# Altium footprint library Bemine-mc60_PCB.PcbLib: 21 footprints (part 2 of 2)
Each footprint in its own frame and in the unit in brackets; x right, y up, seen from the top. Pads: shape width x height; smd on the part's side, far side on the other; paste and mask are expansions set on the pad; w line width, h text height; cw(c..) or ccw(c..) is an arc to the next point about the centre after c.
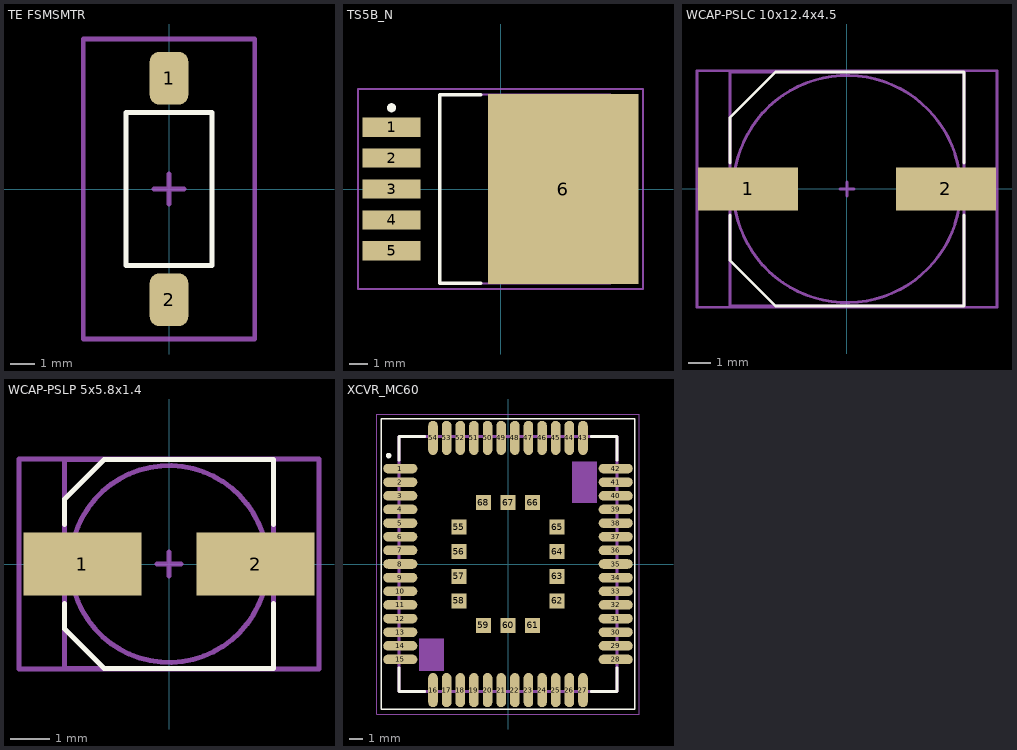
[diagram p1: the footprints below, top view; thin cyan lines are the x and y axes]

## TE FSMSMTR [mm]
pads (2):
  rrect50% 1.6x2.19 smd: 1(0,4.595) 2(0,-4.595)
Top Overlay:
  lines w0.2: -1.778,-3.175 -1.778,3.175 1.778,3.175 1.778,-3.175 -1.778,-3.175
Mechanical 15:
  lines w0.2: -0.635,0 0.635,0 ; 0,-0.635 0,0.635 ; -3.556,-6.223 3.556,-6.223 3.556,6.223 -3.556,6.223 -3.556,-6.223
3D body "FSMSMTR.STEP": height 4.42, standoff 0, extent -1.75,-4.984 1.75,4.985

## TS5B_N [mm]
pads (6):
  rect 3.2x1.05 smd: 1(-6,3.4) 2(-6,1.7) 3(-6,0) 4(-6,-1.7) 5(-6,-3.4)
  rect 8.3x10.45 smd: 6(3.45,0)
Top Overlay:
  circle w0.25: c-6,4.475 r0.125
  lines w0.2: -1.1,-5.2 -3.35,-5.2 -3.35,5.2 -1.1,5.2
Mechanical 13:
  lines w0.1: -3.35,-5.2 -3.35,5.2 6.05,5.2 6.05,-5.2 -3.35,-5.2
Mechanical 15:
  lines w0.1: -0.5,0 0.5,0 ; 0,-0.5 0,0.5 ; -7.85,-5.5 -7.85,5.5 7.85,5.5 7.85,-5.5 -7.85,-5.5
3D body: height 4.65, standoff 0, extent -3.35,-5.2 6.05,5.2

## WCAP-PSLC 10x12.4x4.5 [mm]
pads (2):
  rect 4.4x1.9 smd: 1(-4.35,0) 2(4.35,0)
Top Overlay:
  lines w0.127: -5.15,-1.15 -5.15,-3.15 -3.15,-5.15 5.15,-5.15 5.15,-1.15 ; -5.15,1.15 -5.15,3.15 -3.15,5.15 5.15,5.15 5.15,1.15
Mechanical 13:
  circle w0.127: c0,0 r5
  lines w0.127: -5.15,-5.15 5.15,-5.15 5.15,5.15 -5.15,5.15 -5.15,-5.15
Mechanical 15:
  lines w0.127: -0.3,0 0.3,0 ; 0,-0.3 0,0.3 ; -6.604,-5.207 6.604,-5.207 6.604,5.207 -6.604,5.207 -6.604,-5.207
3D body "10x12.4x4.5.stp": height 12.45, standoff 0.05, extent -5.5,-5.15 5.5,5.15

## WCAP-PSLP 5x5.8x1.4 [mm]
pads (2):
  rect 3x1.6 smd: 1(-2.2,0) 2(2.2,0)
Top Overlay:
  lines w0.127: -2.65,-1 -2.65,-1.65 -1.65,-2.65 2.65,-2.65 2.65,-1 ; -2.65,1 -2.65,1.65 -1.65,2.65 2.65,2.65 2.65,1
Mechanical 13:
  circle w0.127: c0,0 r2.5
  lines w0.127: -2.65,-2.65 2.65,-2.65 2.65,2.65 -2.65,2.65 -2.65,-2.65
Mechanical 15:
  lines w0.127: -0.3,0 0.3,0 ; 0,-0.3 0,0.3 ; -3.81,-2.667 3.81,-2.667 3.81,2.667 -3.81,2.667 -3.81,-2.667
3D body "5x5.8x1.4.stp": height -0.4, standoff -6.2, extent -3,-2.65 3,2.65

## XCVR_MC60 [mm]
pads (68):
  oval 2.5x0.7 smd: 1(-7.9,7) 2(-7.9,6) 3(-7.9,5) 4(-7.9,4) 5(-7.9,3) 6(-7.9,2) 7(-7.9,1) 8(-7.9,0) 9(-7.9,-1) 10(-7.9,-2) 11(-7.9,-3) 12(-7.9,-4) 13(-7.9,-5) 14(-7.9,-6) 15(-7.9,-7) 28(7.9,-7) 29(7.9,-6) 30(7.9,-5) 31(7.9,-4) 32(7.9,-3) 33(7.9,-2) 34(7.9,-1) 35(7.9,0) 36(7.9,1) 37(7.9,2) 38(7.9,3) 39(7.9,4) 40(7.9,5) 41(7.9,6) 42(7.9,7)
  oval 0.7x2.5 smd: 16(-5.5,-9.25) 17(-4.5,-9.25) 18(-3.5,-9.25) 19(-2.5,-9.25) 20(-1.5,-9.25) 21(-0.5,-9.25) 22(0.5,-9.25) 23(1.5,-9.25) 24(2.5,-9.25) 25(3.5,-9.25) 26(4.5,-9.25) 27(5.5,-9.25) 43(5.5,9.25) 44(4.5,9.25) 45(3.5,9.25) 46(2.5,9.25) 47(1.5,9.25) 48(0.5,9.25) 49(-0.5,9.25) 50(-1.5,9.25) 51(-2.5,9.25) 52(-3.5,9.25) 53(-4.5,9.25) 54(-5.5,9.25)
  rect 1.1x1.1 smd: 55(-3.6,2.7) 56(-3.6,0.9) 57(-3.6,-0.9) 58(-3.6,-2.7) 59(-1.8,-4.5) 60(0,-4.5) 61(1.8,-4.5) 62(3.6,-2.7) 63(3.6,-0.9) 64(3.6,0.9) 65(3.6,2.7) 66(1.8,4.5) 67(0,4.5) 68(-1.8,4.5)
Top Overlay:
  circle w0.2: c-8.75,7.95 r0.1
  lines w0.127: -9.3,-10.65 -9.3,10.65 9.3,10.65 9.3,-10.65 -9.3,-10.65
  lines w0.2: -8,-7.6 -8,-9.35 -6.1,-9.35 ; -8,7.6 -8,9.35 -6.1,9.35 ; 6.1,-9.35 8,-9.35 8,-7.6 ; 6.1,9.35 8,9.35 8,7.6
Mechanical 1:
  region: 4.708,7.5 6.5,7.5 6.5,4.508 4.708,4.508
  region: -6.524,-5.5 -4.7,-5.5 -4.7,-7.829 -6.524,-7.829
  region: 4.702,7.5 6.5,7.5 6.5,4.502 4.702,4.502
  region: -6.512,-5.5 -4.7,-5.5 -4.7,-7.815 -6.512,-7.815
  region: -6.523,-5.5 -4.7,-5.5 -4.7,-7.828 -6.523,-7.828
  region: 4.709,7.5 6.5,7.5 6.5,4.509 4.709,4.509
  lines w0.05: -9.625,-11 -9.625,11 9.625,11 9.625,-11 -9.625,-11
  lines w0.2: -8,-9.35 -8,9.35 8,9.35 8,-9.35 -8,-9.35